# Altium schematic symbol library PCB_ANTENNA.SchLib: 1 symbol
Pins are listed as number, name and electrical type; pins without a type are passive.

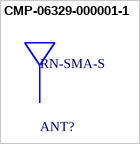
[diagram p0: symbol CMP-06329-000001-1]

## CMP-06329-000001-1
designator ANT?, comment RN-SMA-S
RF ANT 2.4GHZ WHIP STR SMA ML 1"; Input Impedance: 50R; Number of Bands: 1; Gain: 0.56dB; VSWR: 2.5; Height: 1.118inch; Connector Type: SMA; Series: -; Package Quantity: 1; Termination: SMA; REACH SVHC: No SVHC; Mount: Connector; Frequency: 2.4GHz; Case/Package: SMA; Lead Free: Lead Free; Operating Frequency: 2.4 GHz; Packaging: Bulk; Radiation Hardening: No
footprint FP-RN-SMA-S-MFG